# Altium schematic symbol library APC.SCHLIB: 67 symbols
Pins are listed as number, name and electrical type; pins without a type are passive.

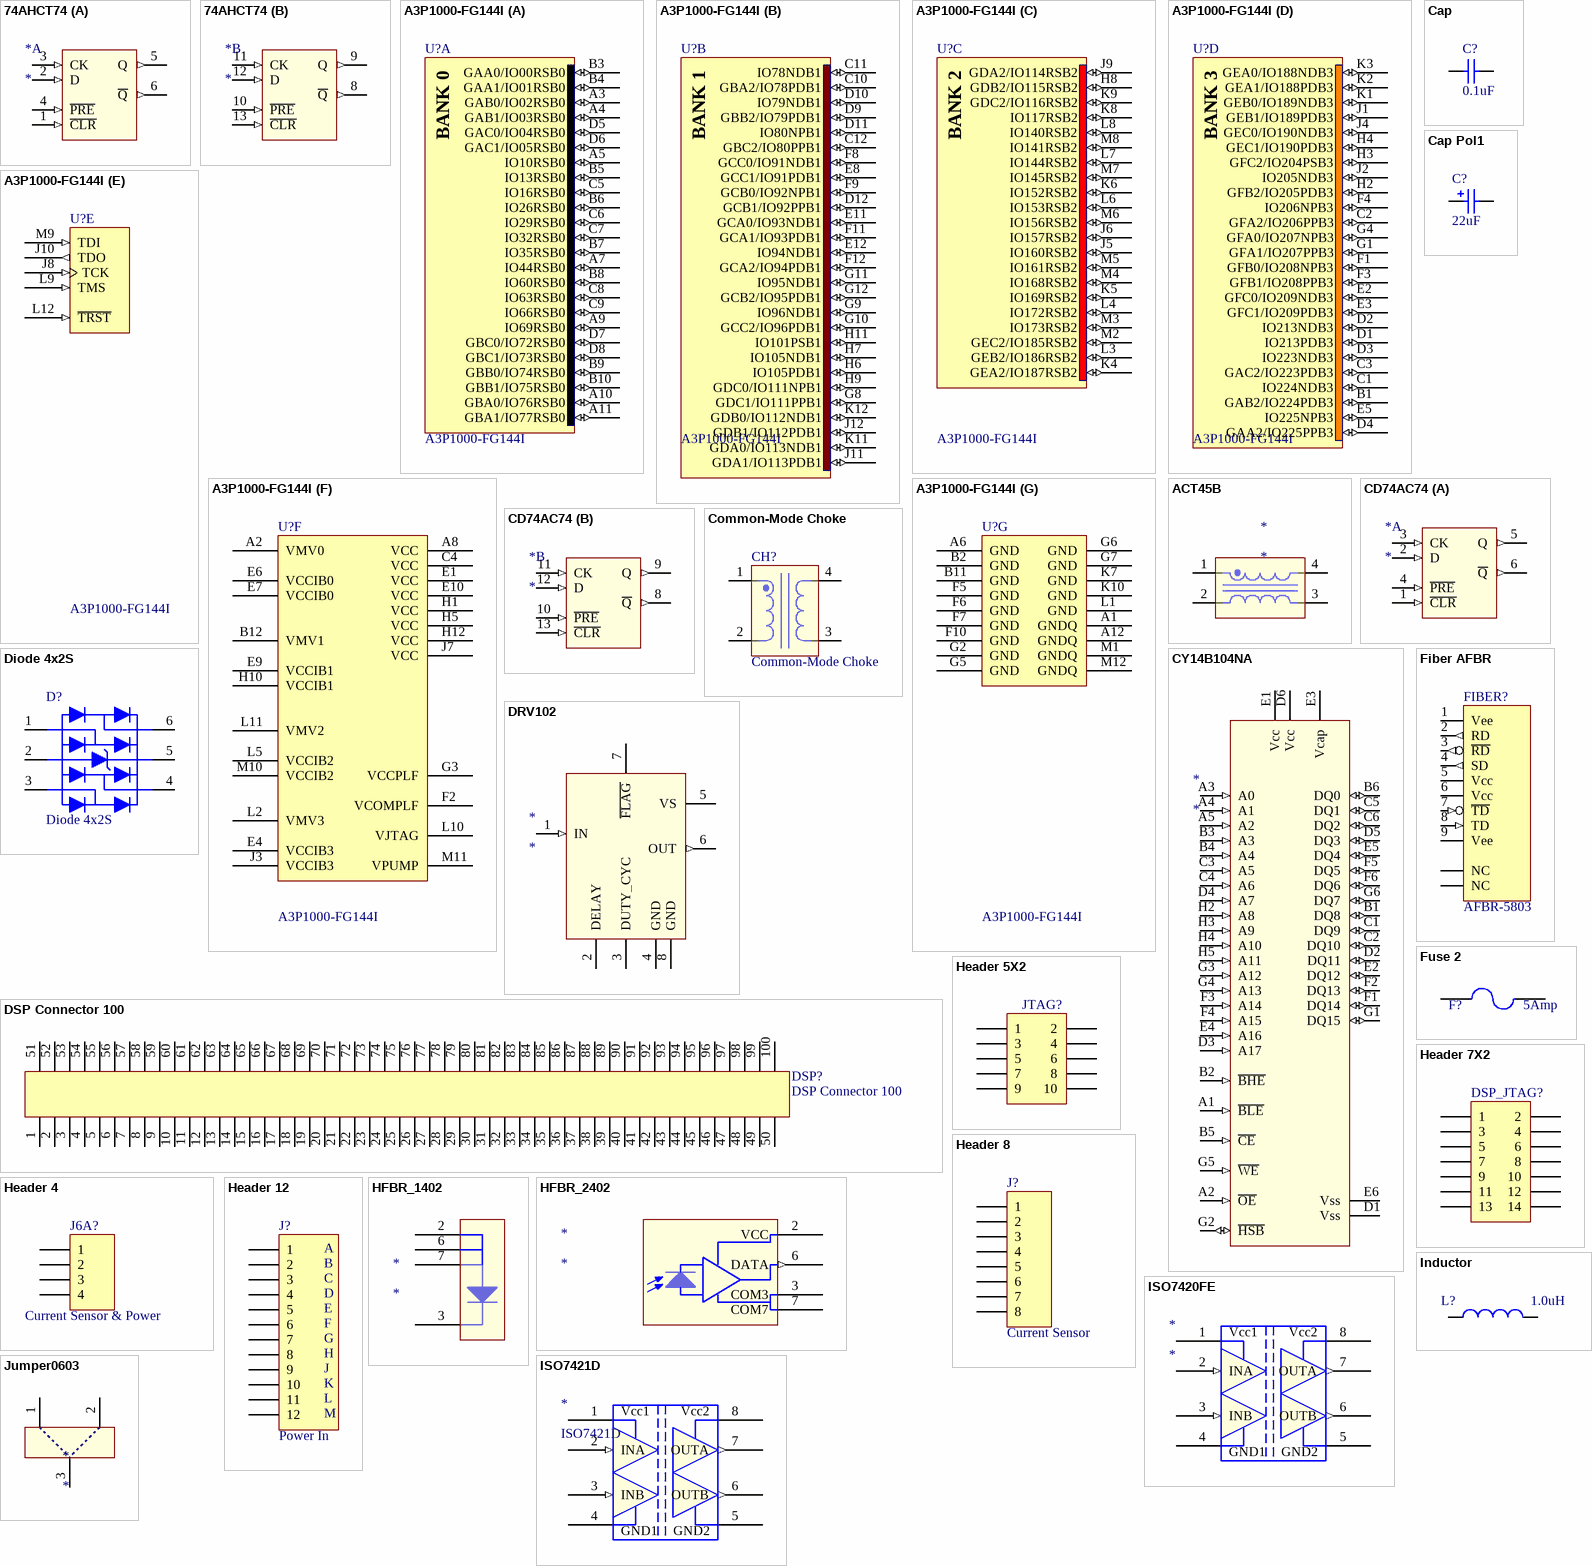
[diagram p0: symbols 74AHCT74 to Jumper0603]

## 74AHCT74
designator *
D-Type Flip-Flop; Part#: SN74AHCT74PWR
footprint TSSOP_14 (14-PIN TSSOP, (TI pkg D))
footprint PW014 (Shrink Small Outline; 14 Leads; Body Width 4.4 mm; Pitch 0.65 mm)
pins on every part: 7 GND (power) hidden
part A pins: 1 ~{CLR} (in), 2 D (in), 3 CK (in), 4 ~{PRE} (in), 5 Q (out), 6 ~{Q} (out), 14 VCC (power) hidden
part B pins: 8 ~{Q} (out), 9 Q (out), 10 ~{PRE} (in), 11 CK (in), 12 D (in), 13 ~{CLR} (in)
2 alternate drawings of the same symbol

## A3P1000-FG144I
designator U?
ProASIC3 Flash Family FPGA, 97 User IOs, 1M System Gates, 144 Kbits RAM, 1 Kbit Flash ROM, 1 PLLs, 144-Ball FBGA, Industrial Grade; Published: 16-Dec-2005; LatestRevisionDate: 13-Apr-2006; LatestRevisionNote: IPC-7351 Footprint Added.; DatasheetVersion: v2.0, Apr-2007; PackageVersion: v9.4, Aug-2006; PackageReference: FG144; Publisher: Altium Limited; PackageDescription: 144-Ball Fine Pitch Plastic Ball Grid Array (FG144); Code_JEDEC: MS-034-AAP-1; ComponentLink1Description: Manufacturer Link; ComponentLink1URL: http://www.actel.com/products/pa3/; ComponentLink2Description: Datasheet; ComponentLink2URL: http://www.actel.com/documents/PA3_DS.pdf; ComponentLink3Description: Packaging Specification; ComponentLink3URL: http://www.actel.com/documents/PckgMechDrwngs.pdf
footprint FG144 (BGA, 144-Leads, Body 13x13mm, Pitch 1mm)
3D model A3P1000-FG144 (144-Ball Fine Pitch Plastic Ball Grid Array (FG144))
signal-integrity model A3P1000_FG144 (ProASIC3)
part A pins: A3 GAB0/IO02RSB0 (io), A4 GAB1/IO03RSB0 (io), A5 IO10RSB0 (io), A7 IO44RSB0 (io), A9 IO69RSB0 (io), A10 GBA0/IO76RSB0 (io), A11 GBA1/IO77RSB0 (io), B3 GAA0/IO00RSB0 (io), B4 GAA1/IO01RSB0 (io), B5 IO13RSB0 (io), B6 IO26RSB0 (io), B7 IO35RSB0 (io), B8 IO60RSB0 (io), B9 GBB0/IO74RSB0 (io), B10 GBB1/IO75RSB0 (io), C5 IO16RSB0 (io), C6 IO29RSB0 (io), C7 IO32RSB0 (io), C8 IO63RSB0 (io), C9 IO66RSB0 (io), D5 GAC0/IO04RSB0 (io), D6 GAC1/IO05RSB0 (io), D7 GBC0/IO72RSB0 (io), D8 GBC1/IO73RSB0 (io)
part B pins: C10 GBA2/IO78PDB1 (io), C11 IO78NDB1 (io), C12 GBC2/IO80PPB1 (io), D9 GBB2/IO79PDB1 (io), D10 IO79NDB1 (io), D11 IO80NPB1 (io), D12 GCB1/IO92PPB1 (io), E8 GCC1/IO91PDB1 (io), E11 GCA0/IO93NDB1 (io), E12 IO94NDB1 (io), F8 GCC0/IO91NDB1 (io), F9 GCB0/IO92NPB1 (io), F11 GCA1/IO93PDB1 (io), F12 GCA2/IO94PDB1 (io), G8 GDC1/IO111PPB1 (io), G9 IO96NDB1 (io), G10 GCC2/IO96PDB1 (io), G11 IO95NDB1 (io), G12 GCB2/IO95PDB1 (io), H6 IO105PDB1 (io), H7 IO105NDB1 (io), H9 GDC0/IO111NPB1 (io), H11 IO101PSB1 (io), J11 GDA1/IO113PDB1 (io), J12 GDB1/IO112PDB1 (io), K11 GDA0/IO113NDB1 (io), K12 GDB0/IO112NDB1 (io)
part C pins: H8 GDB2/IO115RSB2 (io), J5 IO160RSB2 (io), J6 IO157RSB2 (io), J9 GDA2/IO114RSB2 (io), K4 GEA2/IO187RSB2 (io), K5 IO169RSB2 (io), K6 IO152RSB2 (io), K8 IO117RSB2 (io), K9 GDC2/IO116RSB2 (io), L3 GEB2/IO186RSB2 (io), L4 IO172RSB2 (io), L6 IO153RSB2 (io), L7 IO144RSB2 (io), L8 IO140RSB2 (io), M2 GEC2/IO185RSB2 (io), M3 IO173RSB2 (io), M4 IO168RSB2 (io), M5 IO161RSB2 (io), M6 IO156RSB2 (io), M7 IO145RSB2 (io), M8 IO141RSB2 (io)
part D pins: B1 GAB2/IO224PDB3 (io), C1 IO224NDB3 (io), C2 GFA2/IO206PPB3 (io), C3 GAC2/IO223PDB3 (io), D1 IO213PDB3 (io), D2 IO213NDB3 (io), D3 IO223NDB3 (io), D4 GAA2/IO225PPB3 (io), E2 GFC0/IO209NDB3 (io), E3 GFC1/IO209PDB3 (io), E5 IO225NPB3 (io), F1 GFB0/IO208NPB3 (io), F3 GFB1/IO208PPB3 (io), F4 IO206NPB3 (io), G1 GFA1/IO207PPB3 (io), G4 GFA0/IO207NPB3 (io), H2 GFB2/IO205PDB3 (io), H3 GFC2/IO204PSB3 (io), H4 GEC1/IO190PDB3 (io), J1 GEB1/IO189PDB3 (io), J2 IO205NDB3 (io), J4 GEC0/IO190NDB3 (io), K1 GEB0/IO189NDB3 (io), K2 GEA1/IO188PDB3 (io), K3 GEA0/IO188NDB3 (io)
part E pins: J8 TCK (in), J10 TDO (out), L9 TMS (in), L12 ~{TRST} (in), M9 TDI (in)
part F pins: A2 VMV0 (power), A8 VCC (power), B12 VMV1 (power), C4 VCC (power), E1 VCC (power), E4 VCCIB3 (power), E6 VCCIB0 (power), E7 VCCIB0 (power), E9 VCCIB1 (power), E10 VCC (power), F2 VCOMPLF (power), G3 VCCPLF (power), H1 VCC (power), H5 VCC (power), H10 VCCIB1 (power), H12 VCC (power), J3 VCCIB3 (power), J7 VCC (power), L2 VMV3 (power), L5 VCCIB2 (power), L10 VJTAG (power), L11 VMV2 (power), M10 VCCIB2 (power), M11 VPUMP (power)
part G pins: A1 GNDQ (power), A6 GND (power), A12 GNDQ (power), B2 GND (power), B11 GND (power), F5 GND (power), F6 GND (power), F7 GND (power), F10 GND (power), G2 GND (power), G5 GND (power), G6 GND (power), G7 GND (power), K7 GND (power), K10 GND (power), L1 GND (power), M1 GNDQ (power), M12 GNDQ (power)
part A text: BANK 0
part B text: BANK 1
part C text: BANK 2
part D text: BANK 3

## ACT45B
designator *
CAN bus filter
footprint ACT45B (CAN Bus Filter)
pins: 1, 2, 3, 4

## Cap
designator C?  value 0.1uF  (hidden comment: Cap)
Capacitor; Part #: C1812H104J5GACTU; Published: 8-Jun-2000; LatestRevisionDate: 17-Jul-2002; LatestRevisionNote: Re-released for DXP Platform.; PackageReference: RAD-0.3; Publisher: Altium Limited
footprint RAD-0.3 (Capacitor; 2 Leads)
footprint VP32-3.2 (Capacitor, Ceramic, Thru-Hole, Dipped Radial; Body 5.1 x 3.2 mm (WxT) Pin Spacing 2.54 mm (typ))
footprint VP45-3.2 (Capacitor, Ceramic, Thru-Hole, Dipped Radial; Body 7.8 x 3.2 mm (WxT) Pin Spacing 5.08 mm (typ))
simulation model CAP (Capacitor)
signal-integrity model Cap
footprint C1812_Cap (High Temperature Ceramic Capacitor)
pins: 1, 2

## Cap Pol1
designator C?  value 22uF  (hidden comment: Cap Pol1)
Polarized Capacitor; Part #: 135D226X9100F6; Published: 8-Jun-2000; LatestRevisionDate: 17-Jul-2002; LatestRevisionNote: Re-released for DXP Platform.; PackageReference: RB7.6-15; Publisher: Altium Limited
footprint RB7.6-15 (Polarized Capacitor (Radial); 2 Leads)
footprint HA-C1 (Capacitor, Radial, Tantalum; Body 1.7 x 2.8 mm (Dia.xH max); Pin Spacing 1.27 mm (typ))
footprint A (Capacitor, Electrolytic, Radial; Body 4 x 5 mm (Dia.xH typ); Pin Spacing 1.5 mm (typ))
footprint B (Capacitor, Electrolytic, Radial; Body 5 x 6.8 mm (Dia.xH typ); Pin Spacing 2 mm (typ))
footprint CAPPR5-5x5 (Capacitor, Electrolytic, Radial; Body 5 x 5 mm (Dia.xH typ); Pin Spacing 5 mm (typ))
footprint CAPPR7.5-16x35 (Capacitor, Electrolytic, Radial; Body 16 x 35 mm (Dia.xH typ); Pin Spacing 7.5 mm (typ))
simulation model CAP (Capacitor)
signal-integrity model Cap Pol
footprint 140_CRH (Vishay SMD high Temp CRH series capacitor)
footprint 140_CRH (Vishay SMD high Temp CRH series capacitor)
footprint 140_CRH_1010 (Vishay SMD high Temp CRH series capacitor)
footprint 135D_F (Vishay High Temp Tantalum)
pins: 1, 2
1 alternate drawing of the same symbol

## CD74AC74
designator *
Part#: CD74AC74M96
footprint TSSOP_14 (14-PIN TSSOP, (TI pkg D))
pins on every part: 7 GND (power) hidden
part A pins: 1 ~{CLR} (in), 2 D (in), 3 CK (in), 4 ~{PRE} (in), 5 Q (out), 6 ~{Q} (out), 14 VCC (power) hidden
part B pins: 8 ~{Q} (out), 9 Q (out), 10 ~{PRE} (in), 11 CK (in), 12 D (in), 13 ~{CLR} (in)
2 alternate drawings of the same symbol

## Common-Mode Choke
designator CH?
Part#: CMS3-1-R
footprint CMS3_Choke (High Temperature Common Mode Choke)
pins: 1, 2, 3, 4

## CY14B104NA
designator *
Non-Voliatile SRAM, 256Kx16, Cypress
pins: A1 ~{BLE} (in), A2 ~{OE} (in), A3 A0 (in), A4 A1 (in), A5 A2 (in), A6 NC hidden, B1 DQ8 (io), B2 ~{BHE} (in), B3 A3 (in), B4 A4 (in), B5 ~{CE} (in), B6 DQ0 (io), C1 DQ9 (io), C2 DQ10 (io), C3 A5 (in), C4 A6 (in), C5 DQ1 (io), C6 DQ2 (io), D1 Vss (power), D2 DQ11 (io), D3 A17 (in), D4 A7 (in), D5 DQ3 (io), D6 Vcc (power), E1 Vcc (power), E2 DQ12 (io), E3 Vcap, E4 A16 (in), E5 DQ4 (io), E6 Vss (power), F1 DQ14 (io), F2 DQ13 (io), F3 A14 (in), F4 A15 (in), F5 DQ5 (io), F6 DQ6 (io), G1 DQ15 (io), G2 ~{HSB} (io), G3 A12 (in), G4 A13 (in), G5 ~{WE} (in), G6 DQ7 (io), H1 NC hidden, H2 A8 (in), H3 A9 (in), H4 A10 (in), H5 A11 (in), H6 NC hidden

## Diode 4x2S
designator D?
Diode 4chan 824013; Part#: 824013
footprint SOT23 95P280X116-6N (SOT23, 6-Leads, Body 2.9x2.8mm (max), Pitch 0.95mm, IPC MD)
pins: 1, 2, 3, 4, 5, 6

## DRV102
designator *
DRV102
pins: 1 IN (in), 2 DELAY, 3 DUTY_CYC, 4 GND (power), 5 VS (power), 6 OUT (out), 7 ~{FLAG}, 8 GND (power)

## DSP Connector 100
designator DSP?
DSP Board Receptacle; PackageDocument: B; Positions: 100; Published: 15-Jun-2001; LatestRevisionDate: 17-Jul-2002; LatestRevisionNote: Re-released for DXP Platform.; DatasheetDocument: 1-Oct-1983; PackageReference: 178240-9; Publisher: Altium Limited; Orientation: Right Angle
signal-integrity model Connector
pins: 1, 2, 3, 4, 5, 6, 7, 8, 9, 10, 11, 12, 13, 14, 15, 16, 17, 18, 19, 20, 21, 22, 23, 24, 25, 26, 27, 28, 29, 30, 31, 32, 33, 34, 35, 36, 37, 38, 39, 40, 41, 42, 43, 44, 45, 46, 47, 48, 49, 50, 51, 52, 53, 54, 55, 56, 57, 58, 59, 60, 61, 62, 63, 64, 65, 66, 67, 68, 69, 70, 71, 72, 73, 74, 75, 76, 77, 78, 79, 80, 81, 82, 83, 84, 85, 86, 87, 88, 89, 90, 91, 92, 93, 94, 95, 96, 97, 98, 99, 100, 101 HOLE hidden, 102 HOLE hidden

## Fiber AFBR
designator FIBER?, comment AFBR-5803
Fiber ST/SC Duplex; Part#: AFBR-5803TZ
footprint Fiber Duplex AFBR-5803 (Fiber Transceiver AFBR-5803)
pins: 1 Vee (power), 2 RD (out), 3 ~{RD} (out), 4 SD (out), 5 Vcc (power), 6 Vcc (power), 7 ~{TD} (in), 8 TD (in), 9 Vee (power), 10 NC, 11 NC

## Fuse 2
designator F?, comment 5Amp
5A SMT Fuse 1206; Part#: Belfuse - C1S 5; Published: 8-Jun-2000; LatestRevisionDate: 17-Jul-2002; LatestRevisionNote: Re-released for DXP Platform.; PackageReference: PIN-W2/E2.8; Publisher: Altium Limited
footprint PIN-W2/E2.8 (Fuse; 2 Leads)
simulation model FUSE (Spice Subcircuit)
footprint Model Name (Footprint not found)
footprint Model Name (Footprint not found)
footprint FUSE_1206 (5A Fuse - SMT)
pins: 1, 2

## Header 4
designator J6A?, comment Current Sensor & Power
Header, 4-Pin; LatestRevisionDate: 17-Jul-2002; LatestRevisionNote: Re-released for DXP Platform.; Publisher: Altium Limited
footprint HDR1X4 (Connector; Header; 4 Position)
signal-integrity model Connector
pins: 1, 2, 3, 4

## Header 5X2
designator JTAG?  (value not drawn)
Header, 5-Pin, Dual row; LatestRevisionDate: 17-Jul-2002; LatestRevisionNote: Re-released for DXP Platform.; Publisher: Altium Limited
footprint HDR2X5 (Connector; Header; 5x2 Position)
signal-integrity model Connector
pins: 1, 2, 3, 4, 5, 6, 7, 8, 9, 10

## Header 7X2
designator DSP_JTAG?  (value not drawn)
Header, 7-Pin, Dual row; Part#: 67996-114HLF; LatestRevisionDate: 17-Jul-2002; LatestRevisionNote: Re-released for DXP Platform.; Publisher: Altium Limited
signal-integrity model Connector
footprint JTAG_HDR14 (14-pin JTAG header)
pins: 1, 2, 3, 4, 5, 6, 7, 8, 9, 10, 11, 12, 13, 14

## Header 8
designator J?, comment Current Sensor
Header, 8-Pin; LatestRevisionDate: 17-Jul-2002; LatestRevisionNote: Re-released for DXP Platform.; Publisher: Altium Limited
footprint HDR1X8 (Connector; Header; 8 Position)
signal-integrity model Connector
pins: 1, 2, 3, 4, 5, 6, 7, 8

## Header 12
designator J?, comment Power In
Header, 12-Pin; LatestRevisionDate: 17-Jul-2002; LatestRevisionNote: Re-released for DXP Platform.; Publisher: Altium Limited
footprint HDR1X12 (Connector; Header; 12 Position)
signal-integrity model Connector
pins: 1, 2, 3, 4, 5, 6, 7, 8, 9, 10, 11, 12
text: A; B; C; D; E; F; G; H; J; K; L; M

## HFBR_1402
designator *
IR Transmitter, 820nm
pins: 1 NC1 hidden, 2 A2, 3 C, 4 NC4 hidden, 5 NC5 hidden, 6 A6, 7 A7, 8 NC8 hidden

## HFBR_2402
designator *
IR Receiver, 820nm
pins: 1 NC1 hidden, 2 VCC (power), 3 COM3 (power), 4 NC4 hidden, 5 NC5 hidden, 6 DATA (out), 7 COM7 (power), 8 NC8 hidden

## Inductor
designator L?  value 1.0uH  (hidden comment: Inductor)
Part#: LBR2012T1R0M; Code_IEC: 1005; Published: 8-Jun-2000; LatestRevisionDate: 17-Jul-2002; LatestRevisionNote: Re-released for DXP Platform.; PackageReference: 0402-A; Publisher: Altium Limited; Code_JEITA: 0402
footprint 0402-A (Chip Inductor; Body 1 x 0.5 mm (LxW typ))
footprint L0603 (Chip Inductor; Body 1.6 x 0.8 mm (LxW typ))
footprint 2012_Chip (2012 Chip; Chip Inductor; Body 2.0 x 1.2 mm (LxW typ))
footprint 2029 (Chip Inductor; Body 2 x 1.2 mm (LxW typ))
footprint 3261 (3216 Chip; Chip Inductor; Body 3.2 x 1.6 mm (LxW typ))
footprint 4564_Chip (4564 Chip; Chip Inductor; Body 4.5 x 6.4 mm (LxW typ))
simulation model INDUCTOR (Inductor)
signal-integrity model Inductor
footprint 3.2X1.6X1.1 (SMT LED; 2 Flat Leads)
footprint 0805_Inductor (SMD Inductor 0805)
pins: 1, 2

## ISO7420FE
designator *
footprint D008_N (8-Pin Small Outline Integrated Circuit 1.27 mm Pitch, IPC Medium Density)
pins: 1 Vcc1 (power), 2 INA (in), 3 INB (in), 4 GND1 (power), 5 GND2 (power), 6 OUTB (out), 7 OUTA (out), 8 Vcc2 (power)

## ISO7421D
designator *
Part#: ISO7421D
footprint D008_N (8-Pin Small Outline Integrated Circuit 1.27 mm Pitch, IPC Medium Density)
pins: 1 Vcc1 (power), 2 INA (in), 3 INB (in), 4 GND1 (power), 5 GND2 (power), 6 OUTB (out), 7 OUTA (out), 8 Vcc2 (power)

## Jumper0603
designator *
pins: 1, 2, 3 OUT

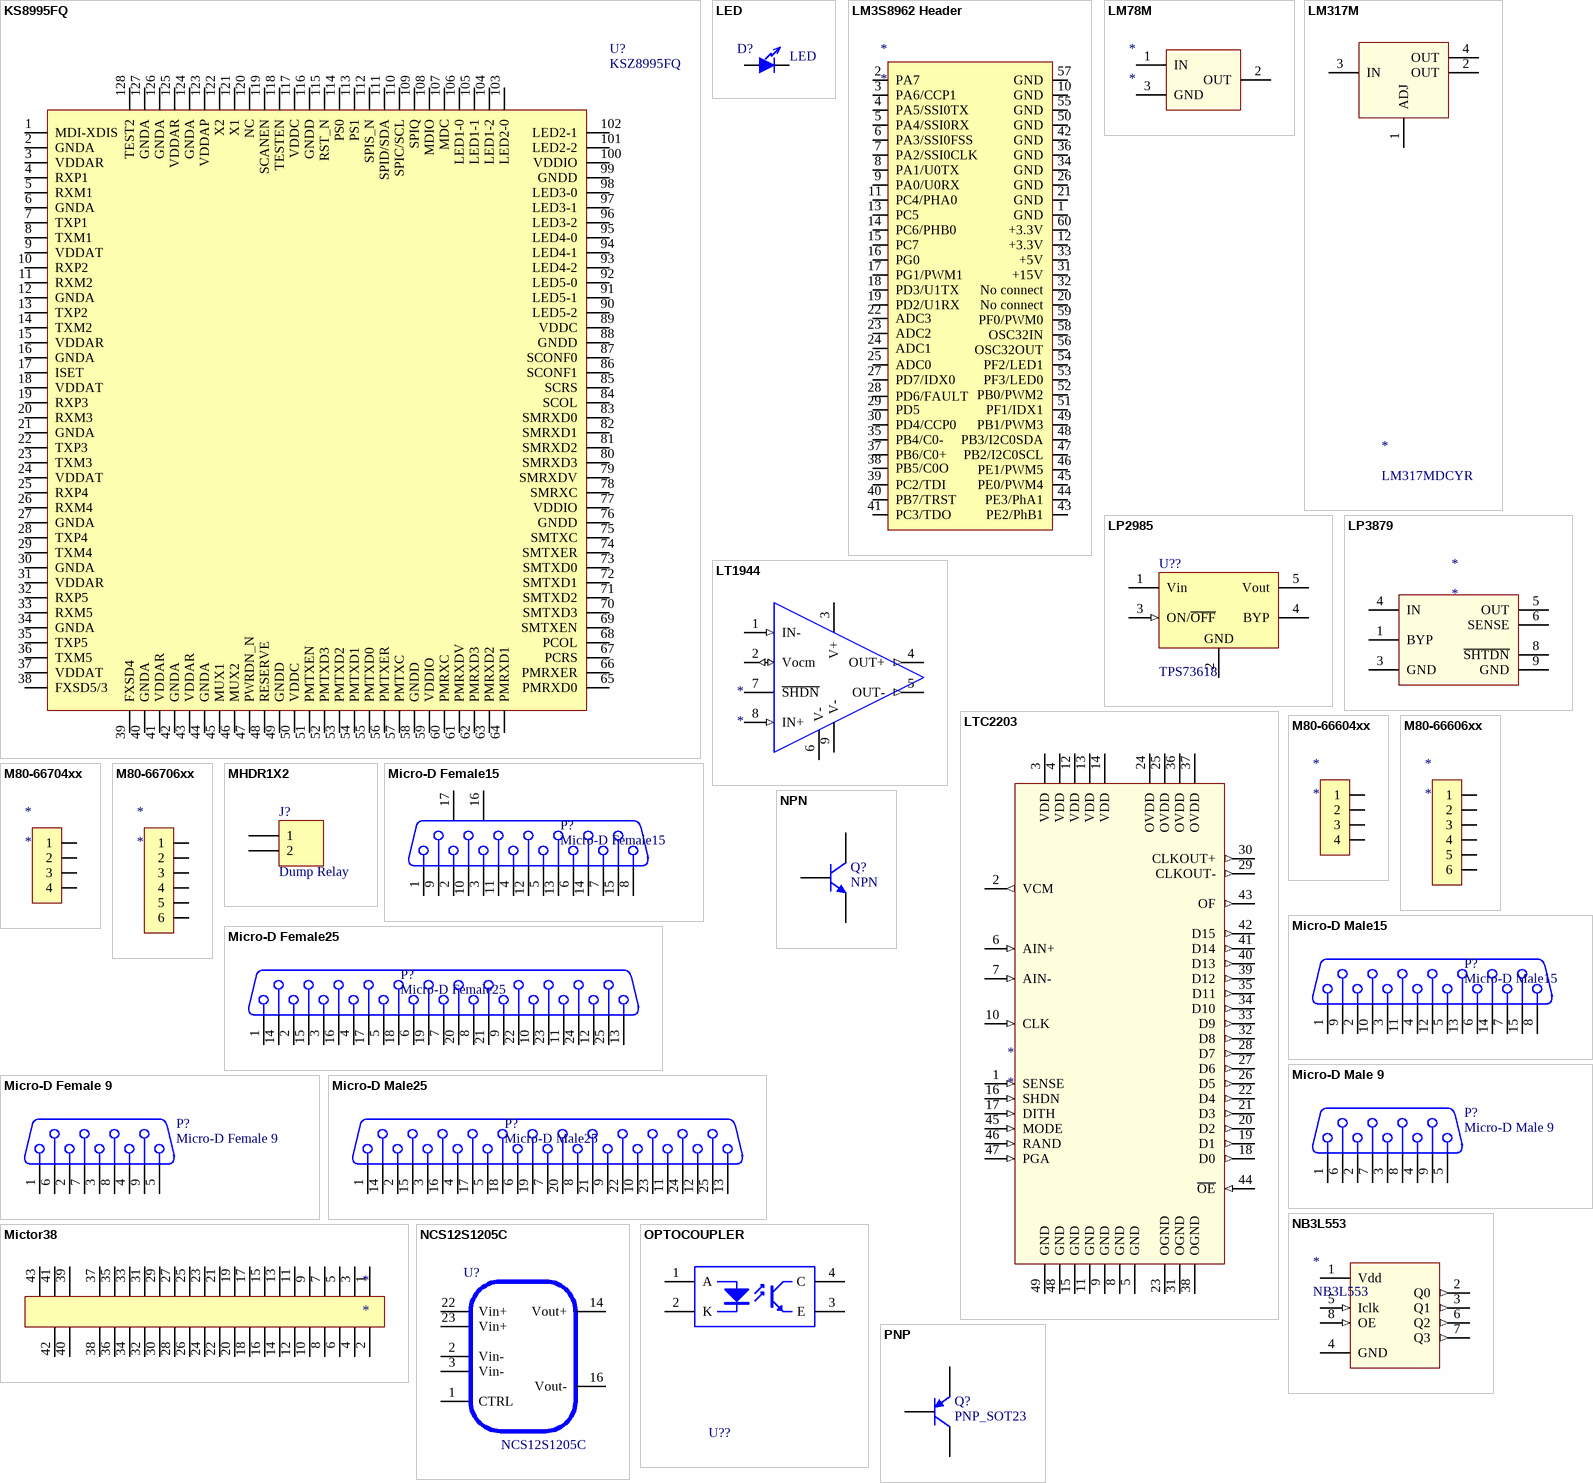
[diagram p1: symbols KS8995FQ to PNP]

## KS8995FQ
designator U?, comment KSZ8995FQ
Micrel KS8995FQ 5-port 10/100 Switch
footprint SQFP50P1720X2320X340-128N (SQFP, 128-Leads, Body 23.5x17.5mm (max), Pitch 0.50mm, IPC MD for KS8995)
pins: 1 MDI-XDIS, 2 GNDA, 3 VDDAR, 4 RXP1, 5 RXM1, 6 GNDA, 7 TXP1, 8 TXM1, 9 VDDAT, 10 RXP2, 11 RXM2, 12 GNDA, 13 TXP2, 14 TXM2, 15 VDDAR, 16 GNDA, 17 ISET, 18 VDDAT, 19 RXP3, 20 RXM3, 21 GNDA, 22 TXP3, 23 TXM3, 24 VDDAT, 25 RXP4, 26 RXM4, 27 GNDA, 28 TXP4, 29 TXM4, 30 GNDA, 31 VDDAR, 32 RXP5, 33 RXM5, 34 GNDA, 35 TXP5, 36 TXM5, 37 VDDAT, 38 FXSD5/3, 39 FXSD4, 40 GNDA, 41 VDDAR, 42 GNDA, 43 VDDAR, 44 GNDA, 45 MUX1, 46 MUX2, 47 PWRDN_N, 48 RESERVE, 49 GNDD, 50 VDDC, 51 PMTXEN, 52 PMTXD3, 53 PMTXD2, 54 PMTXD1, 55 PMTXD0, 56 PMTXER, 57 PMTXC, 58 GNDD, 59 VDDIO, 60 PMRXC, 61 PMRXDV, 62 PMRXD3, 63 PMRXD2, 64 PMRXD1, 65 PMRXD0, 66 PMRXER, 67 PCRS, 68 PCOL, 69 SMTXEN, 70 SMTXD3, 71 SMTXD2, 72 SMTXD1, 73 SMTXD0, 74 SMTXER, 75 SMTXC, 76 GNDD, 77 VDDIO, 78 SMRXC, 79 SMRXDV, 80 SMRXD3, 81 SMRXD2, 82 SMRXD1, 83 SMRXD0, 84 SCOL, 85 SCRS, 86 SCONF1, 87 SCONF0, 88 GNDD, 89 VDDC, 90 LED5-2, 91 LED5-1, 92 LED5-0, 93 LED4-2, 94 LED4-1, 95 LED4-0, 96 LED3-2, 97 LED3-1, 98 LED3-0, 99 GNDD, 100 VDDIO, 101 LED2-2, 102 LED2-1, 103 LED2-0, 104 LED1-2, 105 LED1-1, 106 LED1-0, 107 MDC, 108 MDIO, 109 SPIQ, 110 SPIC/SCL, 111 SPID/SDA, 112 SPIS_N, 113 PS1, 114 PS0, 115 RST_N, 116 GNDD, 117 VDDC, 118 TESTEN, 119 SCANEN, 120 NC, 121 X1, 122 X2, 123 VDDAP, 124 GNDA, 125 VDDAR, 126 GNDA, 127 GNDA, 128 TEST2

## LED
designator D?
Part#: LTST-C170TBKT
footprint LED_3.2X1.6X1.1 (SMT LED; 2 Flat Leads)
footprint 0805_LED (SMD LED 0805)
pins: 1 K, 2 A

## LM3S8962 Header
designator *
footprint LM3S8962 Header (LM3S8962 Evaluation Board Header)
pins: 1 GND, 2 PA7, 3 PA6/CCP1, 4 PA5/SSI0TX, 5 PA4/SSI0RX, 6 PA3/SSI0FSS, 7 PA2/SSI0CLK, 8 PA1/U0TX, 9 PA0/U0RX, 10 GND, 11 PC4/PHA0, 12 +3.3V, 13 PC5, 14 PC6/PHB0, 15 PC7, 16 PG0, 17 PG1/PWM1, 18 PD3/U1TX, 19 PD2/U1RX, 20 No connect, 21 GND, 22 ADC3, 23 ADC2, 24 ADC1, 25 ADC0, 26 GND, 27 PD7/IDX0, 28 PD6/FAULT, 29 PD5, 30 PD4/CCP0, 31 +15V, 32 No connect, 33 +5V, 34 GND, 35 PB4/C0-, 36 GND, 37 PB6/C0+, 38 PB5/C0O, 39 PC2/TDI, 40 PB7/TRST, 41 PC3/TDO, 42 GND, 43 PE2/PhB1, 44 PE3/PhA1, 45 PE0/PWM4, 46 PE1/PWM5, 47 PB2/I2C0SCL, 48 PB3/I2C0SDA, 49 PB1/PWM3, 50 GND, 51 PF1/IDX1, 52 PB0/PWM2, 53 PF3/LED0, 54 PF2/LED1, 55 GND, 56 OSC32OUT, 57 GND, 58 OSC32IN, 59 PF0/PWM0, 60 +3.3V

## LM78M
designator *
Linear Voltage Regulator
pins: 1 IN (power), 2 OUT (power), 3 GND (power)

## LM317M
designator *, comment LM317MDCYR
Part#: LM317MDCYR
footprint SOT223
pins: 1 ADJ, 2 OUT, 3 IN (power), 4 OUT

## LP2985
designator U??, comment TPS73618
150mA Voltage Regulator; Part#: TPS73618DBVR; Published: 15-Apr-2002; DatasheetVersion: Mar-2000; PackageVersion: Nov-1999; PackageReference: 318E-04; Publisher: Altium Limited; PackageDescription: SOT-223/SC-73; 4 Leads; Body 6.7 x 7.3 mm, inc. leads (LxW max); ComponentLink1Description: Manufacturer Link; ComponentLink1URL: http://www.onsemi.com/site/products/taxonomy/0,4438,503,00.html; ComponentLink2Description: Datasheet; ComponentLink2URL: http://www.onsemi.com/pub/Collateral/MC33375-D.PDF
footprint SOT23-5 (SOT23, 5-Leads, Body 2.9x1.6mm, Pitch 0.95mm, Lead Span 2.8mm)
pins: 1 Vin (power), 2 GND (power), 3 ON/~{OFF} (in), 4 BYP, 5 Vout (power)

## LP3879
designator *
Volatge Regulator, 1.2V, 800mA
pins: 1 BYP, 2 N/C hidden, 3 GND (power), 4 IN (power), 5 OUT (power), 6 SENSE, 7 N/C hidden, 8 ~{SHTDN}, 9 GND

## LT1944
designator *
Differential OP-Amp
pins: 1 IN- (in), 2 Vocm (io), 3 V+ (power), 4 OUT+ (out), 5 OUT- (out), 6 V- (power), 7 ~{SHDN}, 8 IN+ (in), 9 V- (power)

## LTC2203
designator *
25MSPS A/D Converter
pins: 1 SENSE (in), 2 VCM (out), 3 VDD (power), 4 VDD (power), 5 GND (power), 6 AIN+ (in), 7 AIN- (in), 8 GND (power), 9 GND (power), 10 CLK (in), 11 GND (power), 12 VDD (power), 13 VDD (power), 14 VDD (power), 15 GND (power), 16 SHDN (in), 17 DITH (in), 18 D0 (out), 19 D1 (out), 20 D2 (out), 21 D3 (out), 22 D4 (out), 23 OGND (power), 24 OVDD (power), 25 OVDD (power), 26 D5 (out), 27 D6 (out), 28 D7 (out), 29 CLKOUT- (out), 30 CLKOUT+ (out), 31 OGND (power), 32 D8 (out), 33 D9 (out), 34 D10 (out), 35 D11 (out), 36 OVDD (power), 37 OVDD (power), 38 OGND, 39 D12 (out), 40 D13 (out), 41 D14 (out), 42 D15 (out), 43 OF (out), 44 ~{OE} (in), 45 MODE (in), 46 RAND (in), 47 PGA (in), 48 GND (power), 49 GND (power)

## M80-66604xx
designator *
Harwin, Horizontal SMT Male, Locking Latch, 4 pin; Part#: M80-6660442
footprint M80-66704xx (Harwin, Horizontal SMT Male, Friction Latch, 4 pin)
pins: 1, 2, 3, 4

## M80-66606xx
designator *
Harwin, Horizontal SMT Male, Locking Latch, 6 pin; Part#: M80-6660642
footprint M80-66706xx (Harwin, Horizontal SMT Male, Friction Latch, 6 pin)
pins: 1, 2, 3, 4, 5, 6

## M80-66704xx
designator *
Harwin, Horizontal SMT Male, Friction Latch, 4 pin
footprint M80-66704xx (Harwin, Horizontal SMT Male, Friction Latch, 4 pin)
footprint M80-66604xx (Harwin, Horizontal SMT Male, Locking Latch, 4 pin)
pins: 1, 2, 3, 4

## M80-66706xx
designator *
Harwin, Horizontal SMT Male, Friction Latch, 6 pin
footprint M80-66706xx (Harwin, Horizontal SMT Male, Friction Latch, 6 pin)
footprint M80-66606xx (Harwin, Horizontal SMT Male, Locking Latch, 6 pin)
pins: 1, 2, 3, 4, 5, 6

## MHDR1X2
designator J?, comment Dump Relay
Header, 2-Pin; LatestRevisionDate: 17-Jul-2002; LatestRevisionNote: Re-released for DXP Platform.; Publisher: Altium Limited
footprint MHDR1X2 (Connector; Header; 2 Position)
signal-integrity model Connector
pins: 1, 2

## Micro-D Female15
designator P?
15-pin Female; Part#: 380-009-113L001; PackageDocument: O; Positions: 9; Gender: Receptacle; Published: 15-Jun-2001; LatestRevisionDate: 17-Jul-2002; LatestRevisionNote: Re-released for DXP Platform.; DatasheetDocument: 1-Sep-1999; PackageReference: 788750; Publisher: Altium Limited; Orientation: Right Angle
signal-integrity model Connector
pins: 1, 2, 3, 4, 5, 6, 7, 8, 9, 10, 11, 12, 13, 14, 15, 16 MH1 hidden, 17 MH2 hidden

## Micro-D Female25
designator P?
25-pin Female; Part#: 380-009-113L001; PackageDocument: O; Positions: 9; Gender: Receptacle; Published: 15-Jun-2001; LatestRevisionDate: 17-Jul-2002; LatestRevisionNote: Re-released for DXP Platform.; DatasheetDocument: 1-Sep-1999; PackageReference: 788750; Publisher: Altium Limited; Orientation: Right Angle
signal-integrity model Connector
pins: 1, 2, 3, 4, 5, 6, 7, 8, 9, 10, 11, 12, 13, 14, 15, 16, 17, 18, 19, 20, 21, 22, 23, 24, 25, 26 hidden, 27 hidden

## Micro-D Female 9
designator P?
9-pin Female; Part#: 380-009-213L001; PackageDocument: O; Positions: 9; Gender: Receptacle; Published: 15-Jun-2001; LatestRevisionDate: 17-Jul-2002; LatestRevisionNote: Re-released for DXP Platform.; DatasheetDocument: 1-Sep-1999; PackageReference: 788750; Publisher: Altium Limited; Orientation: Right Angle
signal-integrity model Connector
pins: 1, 2, 3, 4, 5, 6, 7, 8, 9, 10 MH1 hidden, 11 MH2 hidden

## Micro-D Male15
designator P?
15-pin Male; Part#: 380-009-113L001; PackageDocument: O; Positions: 9; Gender: Receptacle; Published: 15-Jun-2001; LatestRevisionDate: 17-Jul-2002; LatestRevisionNote: Re-released for DXP Platform.; DatasheetDocument: 1-Sep-1999; PackageReference: 788750; Publisher: Altium Limited; Orientation: Right Angle
signal-integrity model Connector
pins: 1, 2, 3, 4, 5, 6, 7, 8, 9, 10, 11, 12, 13, 14, 15, 16 MH1 hidden, 17 MH2 hidden

## Micro-D Male25
designator P?
25-pin Male; Part#: 380-009-113L001; PackageDocument: O; Positions: 9; Gender: Receptacle; Published: 15-Jun-2001; LatestRevisionDate: 17-Jul-2002; LatestRevisionNote: Re-released for DXP Platform.; DatasheetDocument: 1-Sep-1999; PackageReference: 788750; Publisher: Altium Limited; Orientation: Right Angle
signal-integrity model Connector
pins: 1, 2, 3, 4, 5, 6, 7, 8, 9, 10, 11, 12, 13, 14, 15, 16, 17, 18, 19, 20, 21, 22, 23, 24, 25, 26 hidden, 27 hidden

## Micro-D Male 9
designator P?
9-pin Male; Part#: 380-009-113L001; PackageDocument: O; Positions: 9; Gender: Receptacle; Published: 15-Jun-2001; LatestRevisionDate: 17-Jul-2002; LatestRevisionNote: Re-released for DXP Platform.; DatasheetDocument: 1-Sep-1999; PackageReference: 788750; Publisher: Altium Limited; Orientation: Right Angle
signal-integrity model Connector
pins: 1, 2, 3, 4, 5, 6, 7, 8, 9, 10 MH1 hidden, 11 MH2 hidden

## Mictor38
designator *
38-Pin Mictor Connector, Receptacle, PCB mount; Part#: 5767054-1 (Mouser)
footprint Mictor38 (Mictor, 38-pin, PCB receptacle)
pins: 0 hidden, 1, 2, 3, 4, 5, 6, 7, 8, 9, 10, 11, 12, 13, 14, 15, 16, 17, 18, 19, 20, 21, 22, 23, 24, 25, 26, 27, 28, 29, 30, 31, 32, 33, 34, 35, 36, 37, 38, 39, 40, 41, 42, 43

## NB3L553
designator *
1:4 Clock Fanout Buffer, ON Semi
footprint SOIC8 (SOIC, 8-Leads, Body 4.9x3.9mm, Pitch 1.27mm)
pins: 1 Vdd (power), 2 Q0 (out), 3 Q1 (out), 4 GND (power), 5 Iclk (in), 6 Q2 (out), 7 Q3 (out), 8 OE (in)

## NCS12S1205C
designator U?
Murata 12W DC DC Converter, (9-36V)-->(5V)
footprint Murata NCS12S1205C (Murata DC-DC Converter)
pins: 1 CTRL, 2 Vin- (power), 3 Vin- (power), 9 NC9 hidden, 11 NC11 hidden, 14 Vout+ (power), 16 Vout- (power), 22 Vin+ (power), 23 Vin+ (power)

## NPN
designator Q?
NPN General Purpose Amplifier; Part#: BC846BMTF; Published: 8-Jun-2000; LatestRevisionDate: 15-Jan-2003; LatestRevisionNote: PCB Footprint 'BCY-W3/D4.7' replaced; DatasheetDocument: 1997; PackageDocument: Sep-1998; PackageReference: TO-92A; Publisher: Altium Limited; Code_JEDEC: TO-92A; ComponentLink1Description: Manufacturer Link; ComponentLink1URL: http://www.fairchildsemi.com/; ComponentLink2Description: Datasheet; ComponentLink2URL: http://www.fairchildsemi.com/ds/2N%2F2N3904.pdf
simulation model 2N3904 (NPN)
signal-integrity model 2N3904
pins: 1 B, 2 E, 3 C

## OPTOCOUPLER
designator U??
Single Optocoupler; Published: 24-Mar-1999; LatestRevisionDate: 04-Mar-2005; LatestRevisionNote: PCB Footprint replaced, Sch pins re-numbered.; DatasheetDocument: Apr-2004; Publisher: Altium Limited
pins: 1 A "anode 1", 2 K "cathode1", 3 E "cathode2", 4 C "anode2"

## PNP
designator Q?, comment PNP_SOT23
PNP Bipolar Transistor; Part#: ZXTP25020CFFTA; Published: 8-Jun-2000; LatestRevisionDate: 17-Jul-2002; LatestRevisionNote: Re-released for DXP Platform.; PackageReference: SOT-23B; Publisher: Altium Limited; Code_JEDEC: SOT-23
simulation model PNP
signal-integrity model PNP
footprint SOT-23 (SOT-23-3)
pins: 1 B, 2 E, 3 C

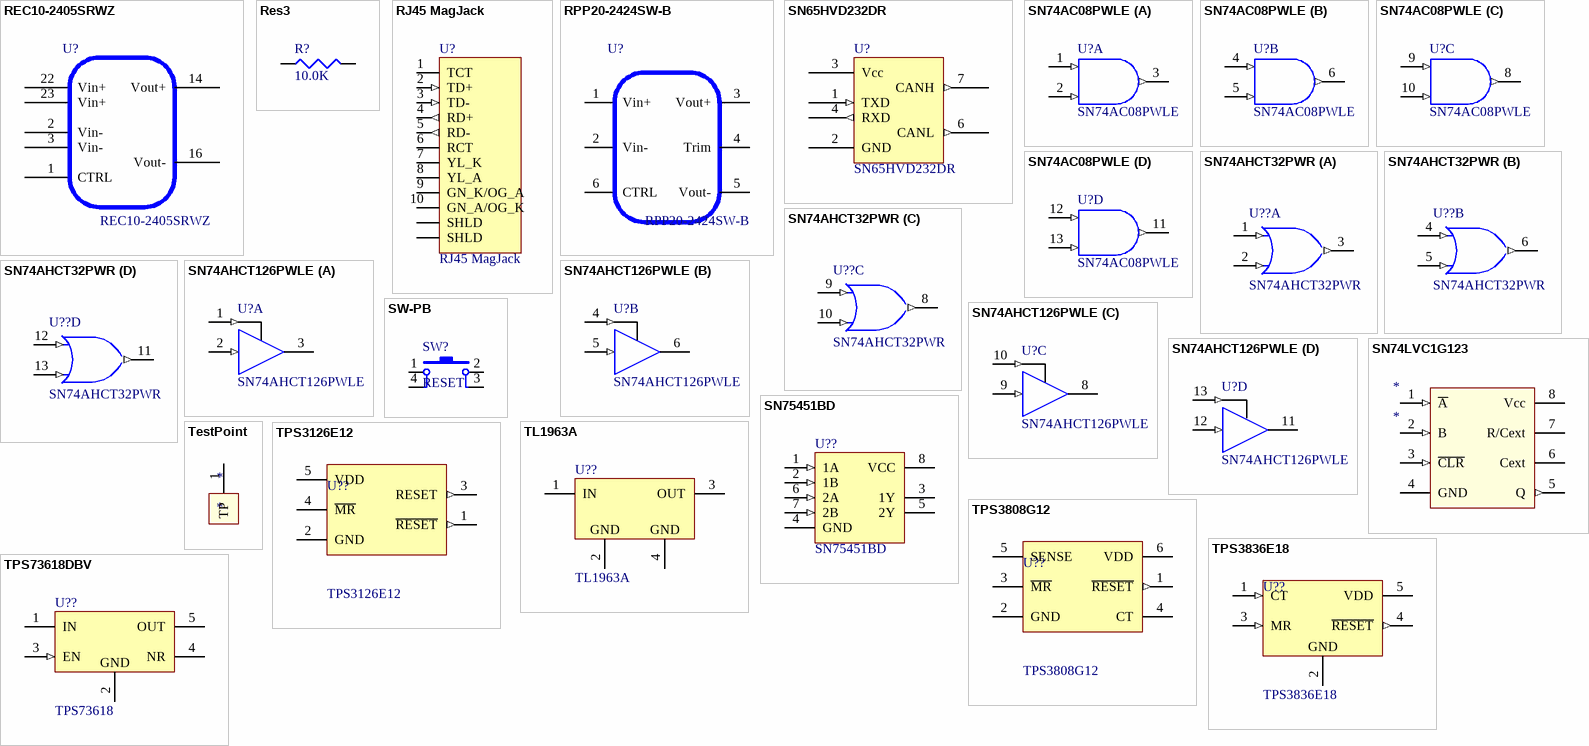
[diagram p2: symbols REC10-2405SRWZ to TPS73618DBV]

## REC10-2405SRWZ
designator U?
RECOM 10W DC DC Converter (5V)
footprint RPP20-S_DW (RECOM High Temp DC-DC converter)
pins: 1 CTRL, 2 Vin- (power), 3 Vin- (power), 9 NC9 hidden, 11 NC11 hidden, 14 Vout+ (power), 16 Vout- (power), 22 Vin+ (power), 23 Vin+ (power)

## Res3
designator R?  value 10.0K  (hidden comment: Res3)
Resistor; Part#: ERJ-3EKF1002V; Published: 8-Jun-2000; LatestRevisionDate: 04-Mar-2005; LatestRevisionNote: PCB Footprint replaced.; PackageReference: J1-0603; Publisher: Altium Limited
footprint J1-0603 (Chip Resistor; Body 1.6 x 0.8 mm (LxW typ))
footprint 3225[1210] (Chip Resistor; Body 3.2 x 2.5 mm (LxW typ))
footprint 5025[2010] (Chip Resistor; Body 5.0 x 2.5 mm (LxW typ))
footprint 6332[2512] (Chip Resistor; Body 6.3 x 3.2 mm (LxW typ))
simulation model RESISTOR (Resistor)
signal-integrity model Res
footprint 0603 (Chip Capacitor; Body 1.6 x 0.8 mm (LxW typ))
pins: 1, 2

## RJ45 MagJack
designator U?
RJ-45 Magjack; Part#: 08B0-1X1T-36-F
footprint RJ-45 Magjack (Bel Magjack 4-core)
pins: 1 TCT, 2 TD+ (in), 3 TD- (in), 4 RD+ (out), 5 RD- (out), 6 RCT, 7 YL_K, 8 YL_A, 9 GN_K/OG_A, 10 GN_A/OG_K, 13 SHLD, 14 SHLD

## RPP20-2424SW-B
designator U?
RECOM 20W DC DC Converter (24V); Part#: RPP20-2424SW-B
footprint Recom_RPP20-B (Recom 20W DC-DC Converter)
pins: 1 Vin+ (power), 2 Vin- (power), 3 Vout+ (power), 4 Trim, 5 Vout- (power), 6 CTRL, 9 NC9 hidden, 11 NC11 hidden

## SN65HVD232DR
designator U?
High Speed CAN Transceiver, 8-Pin Plastic SOIC; Published: 6-Oct-2005; LatestRevisionDate: 13-Apr-2006; LatestRevisionNote: IPC-7351 Footprint Added.; DatasheetVersion: Nov-2003; PackageVersion: Oct-2005; PackageReference: SOIC150-8; Publisher: Altium Limited; PackageDescription: 8-Pin Plastic Narrow Body Small Outline Integrated Circuit 1.27 mm Pitch; Code_JEDEC: MS-012; ComponentLink1Description: Manufacturer Link; ComponentLink1URL: www.ti.com; ComponentLink2Description: Datasheet; ComponentLink2URL: www.ti.com; Part#: SN65HVD232DR
footprint SOIC150-8_N (SOIC, 8-Leads, Body 4.9x3.8mm, Pitch 1.27mm, IPC Medium Density)
footprint SOIC150-8_L (SOIC, 8-Leads, Body 4.9x3.8mm, Pitch 1.27mm, IPC High Density)
footprint SOIC150-8_M (SOIC, 8-Leads, Body 4.9x3.8mm, Pitch 1.27mm, IPC Low Density)
pins: 1 TXD (in) "Screw Terminal", 2 GND (power), 3 Vcc (power) "Positive Supply 4.5V to 5.5V", 4 RXD (out) "Receive Data", 5 NC (out) hidden "Reference Voltage", 6 CANL (out) "CAN Bus Low Line", 7 CANH (out) "CAN Bus High Line", 8 NC hidden "Mode/Slope Setting"

## SN74AC08PWLE
designator U?
Quadruple 2-Input Positive-AND Gate; Part#: SN74AC08PWR; Published: 8-Jun-2000; LatestRevisionDate: 04-Mar-2005; LatestRevisionNote: Stylized 3D Model Added.; DatasheetVersion: Sep-1996; PackageVersion: Feb-1999; PackageReference: PW014; Publisher: Altium Limited; PackageDescription: Shrink Small Outline; 14 Leads; Body Width 4.4 mm; Pitch 0.65 mm; ComponentLink1Description: Manufacturer Link; ComponentLink1URL: http://www.ti.com/; ComponentLink2Description: Datasheet; ComponentLink2URL: http://www-s.ti.com/sc/ds/sn74ac08.pdf; ComponentLink3Description: Packaging Specification; ComponentLink3URL: http://focus.ti.com/lit/ml/mtss001c/mtss001c.pdf
footprint PW014 (Shrink Small Outline; 14 Leads; Body Width 4.4 mm; Pitch 0.65 mm)
3D model PW014 (Shrink Small Outline; 14 Leads; Body Width 4.4 mm; Pitch 0.65 mm)
signal-integrity model SN74AC08PWLE
footprint Model Name (Footprint not found)
pins on every part: 7 GND (power) hidden to GND, 14 5.0V (power) hidden to VCC
part A pins: 1 A (in), 2 B (in), 3 Y (out)
part B pins: 4 A (in), 5 B (in), 6 Y (out)
part C pins: 8 Y (out), 9 A (in), 10 B (in)
part D pins: 11 Y (out), 12 A (in), 13 B (in)

## SN74AHCT32PWR
designator U??
Quadruple 2-Input Positive-OR Gate; Published: 8-Jun-2000; LatestRevisionDate: 13-Apr-2006; LatestRevisionNote: IPC-7351 Footprint Added.; DatasheetVersion: Oct-1998; PackageVersion: Jan-1998; PackageReference: D014; Publisher: Altium Limited; PackageDescription: 14-Pin Small Outline Integrated Circuit 1.27 mm Pitch; Code_IPC: SOIC127P600-14; ComponentLink1Description: Manufacturer Link; ComponentLink1URL: http://www.ti.com/; ComponentLink2Description: Datasheet; ComponentLink2URL: http://www-s.ti.com/sc/ds/sn74ahct32.pdf; ComponentLink3Description: Packaging Specification; ComponentLink3URL: http://focus.ti.com/lit/ml/mpds177/mpds177.pdf; Part#: SN74AHCT32PWR
3D model D014 (14-Pin Small Outline Integrated Circuit 1.27 mm Pitch)
signal-integrity model SN74AHCT32D
pins on every part: 7 GND (power) hidden to GND, 14 VCC (power) hidden to VCC
part A pins: 1 A (in), 2 B (in), 3 Y (out)
part B pins: 4 A (in), 5 B (in), 6 Y (out)
part C pins: 8 Y (out), 9 A (in), 10 B (in)
part D pins: 11 Y (out), 12 A (in), 13 B (in)

## SN74AHCT126PWLE
designator U?
Quadruple Bus Buffer Gate with 3-State Outputs; ComponentAvailability: Obsolete; Published: 8-Jun-2000; LatestRevisionDate: 16-Oct-2006; LatestRevisionNote: IPC-7351 Footprint Added.; DatasheetVersion: Oct-1998; PackageVersion: Feb-1999; PackageReference: PW014; Publisher: Altium Limited; PackageDescription: 14-Pin Thin Small Outline Package 0.65 mm Pitch; ComponentLink1Description: Manufacturer Link; ComponentLink1URL: http://www.ti.com/; ComponentLink2Description: Datasheet; ComponentLink2URL: http://www-s.ti.com/sc/ds/sn74ahct126.pdf
footprint PW014_N (TSOP, 14-Leads, Body 5x4.4mm, Pitch 0.65mm, IPC Medium Density)
footprint PW014_L (TSOP, 14-Leads, Body 5x4.4mm, Pitch 0.65mm, IPC High Density)
footprint PW014_M (TSOP, 14-Leads, Body 5x4.4mm, Pitch 0.65mm, IPC Low Density)
3D model PW014 (14-Pin Thin Small Outline Package 0.65 mm Pitch)
signal-integrity model SN74AHCT126PWLE
pins on every part: 7 GND (power) hidden to GND, 14 VCC (power) hidden to VCC
part A pins: 1 OE (in), 2 A (in), 3 Y (hiz)
part B pins: 4 OE (in), 5 A (in), 6 Y (hiz)
part C pins: 8 Y (hiz), 9 A (in), 10 OE (in)
part D pins: 11 Y (hiz), 12 A (in), 13 OE (in)

## SN74LVC1G123
designator *
Part#: SN74LVC1G123DCUR
footprint VSSOP_8 (VSSOP, 8-Leads, Body 2.4x2.1mm,)
pins: 1 ~{A} (in), 2 B (in), 3 ~{CLR} (in), 4 GND (power), 5 Q (out), 6 Cext, 7 R/Cext, 8 Vcc (power)

## SN75451BD
designator U??
Dual Peripheral Driver; Part#: SN75451BDR; Published: 15-May-2002; LatestRevisionDate: 13-Apr-2006; LatestRevisionNote: IPC-7351 Footprint Added.; DatasheetVersion: May-1990; PackageVersion: Jan-1998; PackageReference: D008; Publisher: Altium Limited; PackageDescription: 8-Pin Small Outline Integrated Circuit 1.27 mm Pitch; Code_IPC: SOIC127P600-8; ComponentLink1Description: Manufacturer Link; ComponentLink1URL: http://www.ti.com/; ComponentLink2Description: Datasheet; ComponentLink2URL: http://www-s.ti.com/sc/ds/sn55451b.pdf
footprint D008_N (SOIC, 8-Leads, Body 4.9x3.9mm, Pitch 1.27mm, IPC Medium Density)
footprint D008_L (SOIC, 8-Leads, Body 4.9x3.9mm, Pitch 1.27mm, IPC High Density)
footprint D008_M (SOIC, 8-Leads, Body 4.9x3.9mm, Pitch 1.27mm, IPC Low Density)
3D model D008 (8-Pin Small Outline Integrated Circuit 1.27 mm Pitch)
footprint SOIC8 (SOIC, 8-Leads, Body 4.9x3.9mm, Pitch 1.27mm)
pins: 1 1A (in), 2 1B (in), 3 1Y (oc), 4 GND (power), 5 2Y (oc), 6 2A (in), 7 2B (in), 8 VCC (power)

## SW-PB
designator SW?, comment RESET
Switch; Part#: 1.14100.5030000; Published: 24-Mar-1999; LatestRevisionDate: 17-Jul-2002; LatestRevisionNote: Re-released for DXP Platform.; PackageReference: SPST-2; Publisher: Altium Limited
footprint SPST-2 (Switch; 2 Leads)
pins: 1, 2, 3, 4

## TestPoint
designator *
Test Point
footprint TestPointSMD (Test Point - Single Layer)
pins: 1 TP

## TL1963A
designator U??
1.5A Voltage Regulator; Part#: TL1963A-33DCYR; Published: 15-Apr-2002; DatasheetVersion: Mar-2000; PackageVersion: Nov-1999; PackageReference: 318E-04; Publisher: Altium Limited; PackageDescription: SOT-223/SC-73; 4 Leads; Body 6.7 x 7.3 mm, inc. leads (LxW max); ComponentLink1Description: Manufacturer Link; ComponentLink1URL: http://www.onsemi.com/site/products/taxonomy/0,4438,503,00.html; ComponentLink2Description: Datasheet; ComponentLink2URL: http://www.onsemi.com/pub/Collateral/MC33375-D.PDF
footprint 318E-04 (SOT-223/SC-73; 4 Leads; Body 6.7 x 7.3 mm, inc. leads (LxW max))
pins: 1 IN (power), 2 GND (power), 3 OUT (power), 4 GND (power)

## TPS3126E12
designator U??
1.2V Voltage Monitor & Reset Generator; Part#: TPS3126E12DBVT; Published: 15-Apr-2002; DatasheetVersion: Mar-2000; PackageVersion: Nov-1999; PackageReference: 318E-04; Publisher: Altium Limited; PackageDescription: SOT-223/SC-73; 4 Leads; Body 6.7 x 7.3 mm, inc. leads (LxW max); ComponentLink1Description: Manufacturer Link; ComponentLink1URL: http://www.onsemi.com/site/products/taxonomy/0,4438,503,00.html; ComponentLink2Description: Datasheet; ComponentLink2URL: http://www.onsemi.com/pub/Collateral/MC33375-D.PDF
footprint 318E-04 (SOT-223/SC-73; 4 Leads; Body 6.7 x 7.3 mm, inc. leads (LxW max))
footprint SOT23-5 (SOT23, 5-Leads, Body 2.9x1.6mm, Pitch 0.95mm, Lead Span 2.8mm)
pins: 1 ~{RESET} (out), 2 GND (power), 3 RESET (out), 4 ~{MR}, 5 VDD (power)

## TPS3808G12
designator U??
1.2V Voltage Monitor & Reset Generator; Part#: TPS3808G12DBVR; Published: 15-Apr-2002; DatasheetVersion: Mar-2000; PackageVersion: Nov-1999; PackageReference: 318E-04; Publisher: Altium Limited; PackageDescription: SOT-223/SC-73; 4 Leads; Body 6.7 x 7.3 mm, inc. leads (LxW max); ComponentLink1Description: Manufacturer Link; ComponentLink1URL: http://www.onsemi.com/site/products/taxonomy/0,4438,503,00.html; ComponentLink2Description: Datasheet; ComponentLink2URL: http://www.onsemi.com/pub/Collateral/MC33375-D.PDF
footprint 318E-04 (SOT-223/SC-73; 4 Leads; Body 6.7 x 7.3 mm, inc. leads (LxW max))
footprint SOT23-6 (SOT23, 6-Leads, Body 2.9x1.6mm, Pitch 0.95mm, Lead Span 2.8mm)
pins: 1 ~{RESET} (out), 2 GND (power), 3 ~{MR}, 4 CT, 5 SENSE, 6 VDD (power)

## TPS3836E18
designator U??
1.8V Voltage Monitor & Reset Generator; Part#: TPS3836E18DBVT; Published: 15-Apr-2002; DatasheetVersion: Mar-2000; PackageVersion: Nov-1999; PackageReference: 318E-04; Publisher: Altium Limited; PackageDescription: SOT-223/SC-73; 4 Leads; Body 6.7 x 7.3 mm, inc. leads (LxW max); ComponentLink1Description: Manufacturer Link; ComponentLink1URL: http://www.onsemi.com/site/products/taxonomy/0,4438,503,00.html; ComponentLink2Description: Datasheet; ComponentLink2URL: http://www.onsemi.com/pub/Collateral/MC33375-D.PDF
footprint 318E-04 (SOT-223/SC-73; 4 Leads; Body 6.7 x 7.3 mm, inc. leads (LxW max))
footprint SOT23-5 (SOT23, 5-Leads, Body 2.9x1.6mm, Pitch 0.95mm, Lead Span 2.8mm)
pins: 1 CT (in), 2 GND (power), 3 MR (in), 4 ~{RESET} (out), 5 VDD (power)

## TPS73618DBV
designator U??, comment TPS73618
400mA Voltage Regulator; Part#: TPS73618DBVR; Published: 15-Apr-2002; DatasheetVersion: Mar-2000; PackageVersion: Nov-1999; PackageReference: 318E-04; Publisher: Altium Limited; PackageDescription: SOT-223/SC-73; 4 Leads; Body 6.7 x 7.3 mm, inc. leads (LxW max); ComponentLink1Description: Manufacturer Link; ComponentLink1URL: http://www.onsemi.com/site/products/taxonomy/0,4438,503,00.html; ComponentLink2Description: Datasheet; ComponentLink2URL: http://www.onsemi.com/pub/Collateral/MC33375-D.PDF
footprint 318E-04 (SOT-223/SC-73; 4 Leads; Body 6.7 x 7.3 mm, inc. leads (LxW max))
pins: 1 IN (power), 2 GND (power), 3 EN (in), 4 NR, 5 OUT (power)